# EAGLE library part P140KV1 (library pot-tt_electronics)
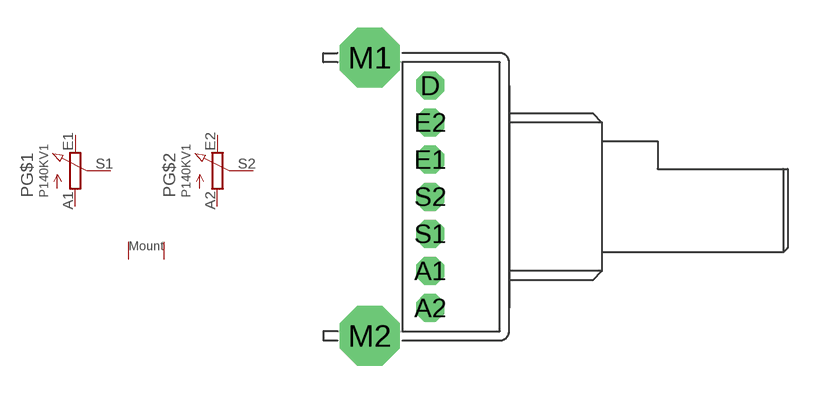
[diagram p15: symbol with the pads of PK140KV1; footprint PK140KV1]

Designator prefix P; gates G$1=POT_EU- G$2=POT_EU- G$3=MOUNT

## P140KV1  [PK140KV1]
A1  G$1:A  pas
A2  G$2:A  pas
E1  G$1:E  pas
E2  G$2:E  pas
M1  G$3:GND  pas
M2  G$3:GND  pas
S1  G$1:S  pas
S2  G$2:S  pas

## Footprint PK140KV1 (pad centres in mm)
drill 1 octagon: A1 0,-4; A2 0,-6; D 0,6; E1 0,2; E2 0,4; S1 0,-2; S2 0,0
drill 2.2 octagon: M1 -3.25,7.5; M2 -3.25,-7.5